# Altium schematic symbol library WE-MAPI.SchLib: 184 symbols (part 1 of 4)
Pins are listed as number, name and electrical type; pins without a type are passive.

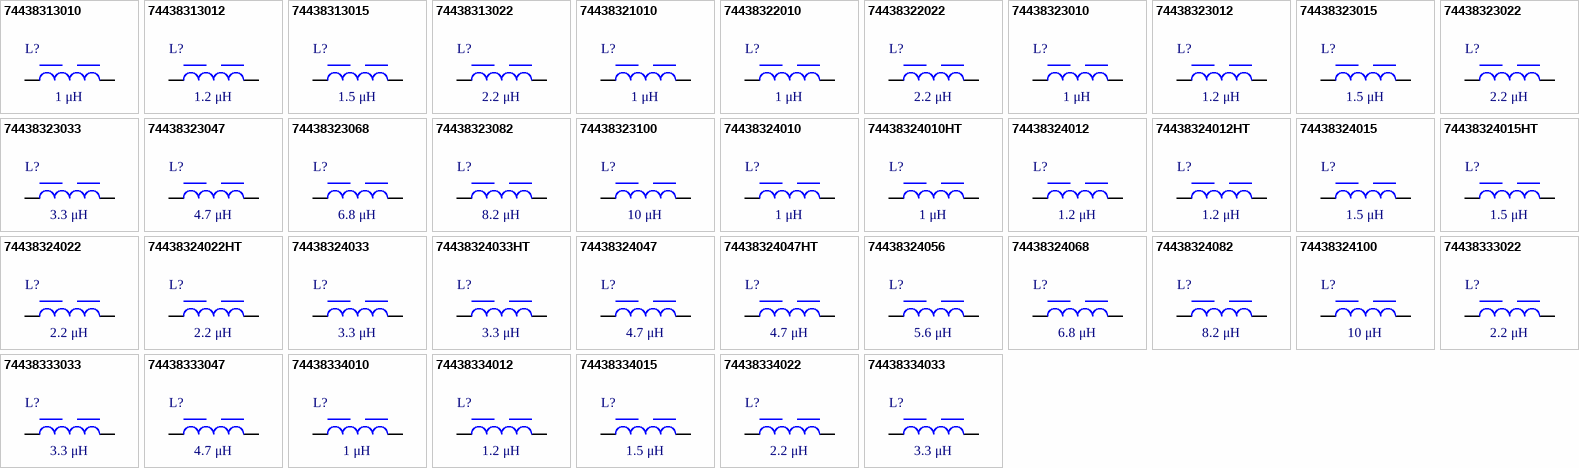
[diagram p0: symbols 74438313010 to 74438334033]

## 74438313010
designator L?, comment 1 μH
WE-MAPI SMT Power Inductor, size 1610, 1 μH, 2.2 A, 127 mΩ; Manufacturer Part Number: 74438313010; Manufacturer: Wurth Elektronik; Case/Size Code: 1610; DC Resistance: 127 mΩ; Operating Voltage (DC): 80 V; Performance Rated Current: 2.2 A; Saturation Current @ 30%: 4.25 A; Self Resonant Frequency: 111 MHz; Category: Power Inductors; Match Code: WE-MAPI; ComponentLink1Description: Website Link; ComponentLink1URL: https://www.we-online.com/redexpert/article/74438313010?ad; ComponentLink2Description: Datasheet Link; ComponentLink2URL: https://www.we-online.com/redexpert/spec/74438313010?ad; Mount: Surface Mount; Min Operating Temperature: -40 °C; Max Operating Temperature: 125 °C; Packaging: Tape and Reel; Length: 1.6 mm; Width: 1.6 mm; Height: 1 mm; Inductance: 1 μH
footprint WE-MAPI_1610
simulation model 1610_74438313010_1u
pins: 1, 2

## 74438313012
designator L?, comment 1.2 μH
WE-MAPI SMT Power Inductor, size 1610, 1.2 μH, 2.1 A, 140 mΩ; Manufacturer Part Number: 74438313012; Manufacturer: Wurth Elektronik; Case/Size Code: 1610; DC Resistance: 140 mΩ; Operating Voltage (DC): 80 V; Performance Rated Current: 2.1 A; Saturation Current @ 30%: 4.1 A; Self Resonant Frequency: 109 MHz; Category: Power Inductors; Match Code: WE-MAPI; ComponentLink1Description: Website Link; ComponentLink1URL: https://www.we-online.com/redexpert/article/74438313012?ad; ComponentLink2Description: Datasheet Link; ComponentLink2URL: https://www.we-online.com/redexpert/spec/74438313012?ad; Mount: Surface Mount; Min Operating Temperature: -40 °C; Max Operating Temperature: 125 °C; Packaging: Tape and Reel; Length: 1.6 mm; Width: 1.6 mm; Height: 1 mm; Inductance: 1.2 μH
footprint WE-MAPI_1610
simulation model 1610_74438313012_1.2u
pins: 1, 2

## 74438313015
designator L?, comment 1.5 μH
WE-MAPI SMT Power Inductor, size 1610, 1.5 μH, 1.8 A, 189 mΩ; Manufacturer Part Number: 74438313015; Manufacturer: Wurth Elektronik; Case/Size Code: 1610; DC Resistance: 189 mΩ; Operating Voltage (DC): 80 V; Performance Rated Current: 1.8 A; Saturation Current @ 30%: 3.45 A; Self Resonant Frequency: 90 MHz; Category: Power Inductors; Match Code: WE-MAPI; ComponentLink1Description: Website Link; ComponentLink1URL: https://www.we-online.com/redexpert/article/74438313015?ad; ComponentLink2Description: Datasheet Link; ComponentLink2URL: https://www.we-online.com/redexpert/spec/74438313015?ad; Mount: Surface Mount; Min Operating Temperature: -40 °C; Max Operating Temperature: 125 °C; Packaging: Tape and Reel; Length: 1.6 mm; Width: 1.6 mm; Height: 1 mm; Inductance: 1.5 μH
footprint WE-MAPI_1610
simulation model 1610_74438313015_1.5u
pins: 1, 2

## 74438313022
designator L?, comment 2.2 μH
WE-MAPI SMT Power Inductor, size 1610, 2.2 μH, 1.25 A, 337 mΩ; Manufacturer Part Number: 74438313022; Manufacturer: Wurth Elektronik; Case/Size Code: 1610; DC Resistance: 337 mΩ; Operating Voltage (DC): 80 V; Performance Rated Current: 1.25 A; Saturation Current @ 30%: 3.25 A; Self Resonant Frequency: 70 MHz; Category: Power Inductors; Match Code: WE-MAPI; ComponentLink1Description: Website Link; ComponentLink1URL: https://www.we-online.com/redexpert/article/74438313022?ad; ComponentLink2Description: Datasheet Link; ComponentLink2URL: https://www.we-online.com/redexpert/spec/74438313022?ad; Mount: Surface Mount; Min Operating Temperature: -40 °C; Max Operating Temperature: 125 °C; Packaging: Tape and Reel; Length: 1.6 mm; Width: 1.6 mm; Height: 1 mm; Inductance: 2.2 μH
footprint WE-MAPI_1610
simulation model 1610_74438313022_2.2u
pins: 1, 2

## 74438321010
designator L?, comment 1 μH
WE-MAPI SMT Power Inductor, size 2506, 1 μH, 2.1 A, 163 mΩ; Manufacturer Part Number: 74438321010; Manufacturer: Wurth Elektronik; Case/Size Code: 2506; DC Resistance: 163 mΩ; Operating Voltage (DC): 80 V; Performance Rated Current: 2.1 A; Saturation Current @ 30%: 3.25 A; Self Resonant Frequency: 90 MHz; Category: Power Inductors; Match Code: WE-MAPI; ComponentLink1Description: Website Link; ComponentLink1URL: https://www.we-online.com/redexpert/article/74438321010?ad; ComponentLink2Description: Datasheet Link; ComponentLink2URL: https://www.we-online.com/redexpert/spec/74438321010?ad; Mount: Surface Mount; Min Operating Temperature: -40 °C; Max Operating Temperature: 125 °C; Packaging: Tape and Reel; Length: 2.5 mm; Width: 2 mm; Height: 0.6 mm; Inductance: 1 μH
footprint WE-MAPI_2506
simulation model 2506_74438321010_1u
pins: 1, 2

## 74438322010
designator L?, comment 1 μH
WE-MAPI SMT Power Inductor, size 2508, 1 μH, 2.65 A, 107 mΩ; Manufacturer Part Number: 74438322010; Manufacturer: Wurth Elektronik; Case/Size Code: 2508; DC Resistance: 107 mΩ; Operating Voltage (DC): 80 V; Performance Rated Current: 2.65 A; Saturation Current @ 30%: 4.4 A; Self Resonant Frequency: 100 MHz; Category: Power Inductors; Match Code: WE-MAPI; ComponentLink1Description: Website Link; ComponentLink1URL: https://www.we-online.com/redexpert/article/74438322010?ad; ComponentLink2Description: Datasheet Link; ComponentLink2URL: https://www.we-online.com/redexpert/spec/74438322010?ad; Mount: Surface Mount; Min Operating Temperature: -40 °C; Max Operating Temperature: 125 °C; Packaging: Tape and Reel; Length: 2.5 mm; Width: 2 mm; Height: 0.8 mm; Inductance: 1 μH
footprint WE-MAPI_2508
simulation model 2508_74438322010_1u
pins: 1, 2

## 74438322022
designator L?, comment 2.2 μH
WE-MAPI SMT Power Inductor, size 2508, 2.2 μH, 1.65 A, 252 mΩ; Manufacturer Part Number: 74438322022; Manufacturer: Wurth Elektronik; Case/Size Code: 2508; DC Resistance: 252 mΩ; Operating Voltage (DC): 80 V; Performance Rated Current: 1.65 A; Saturation Current @ 30%: 2.8 A; Self Resonant Frequency: 60 MHz; Category: Power Inductors; Match Code: WE-MAPI; ComponentLink1Description: Website Link; ComponentLink1URL: https://www.we-online.com/redexpert/article/74438322022?ad; ComponentLink2Description: Datasheet Link; ComponentLink2URL: https://www.we-online.com/redexpert/spec/74438322022?ad; Mount: Surface Mount; Min Operating Temperature: -40 °C; Max Operating Temperature: 125 °C; Packaging: Tape and Reel; Length: 2.5 mm; Width: 2 mm; Height: 0.8 mm; Inductance: 2.2 μH
footprint WE-MAPI_2508
simulation model 2508_74438322022_2.2u
pins: 1, 2

## 74438323010
designator L?, comment 1 μH
WE-MAPI SMT Power Inductor, size 2510, 1 μH, 3.55 A, 63 mΩ; Manufacturer Part Number: 74438323010; Manufacturer: Wurth Elektronik; Case/Size Code: 2510; DC Resistance: 63 mΩ; Operating Voltage (DC): 80 V; Performance Rated Current: 3.55 A; Saturation Current @ 30%: 5.3 A; Self Resonant Frequency: 80 MHz; Category: Power Inductors; Match Code: WE-MAPI; ComponentLink1Description: Website Link; ComponentLink1URL: https://www.we-online.com/redexpert/article/74438323010?ad; ComponentLink2Description: Datasheet Link; ComponentLink2URL: https://www.we-online.com/redexpert/spec/74438323010?ad; Mount: Surface Mount; Min Operating Temperature: -40 °C; Max Operating Temperature: 125 °C; Packaging: Tape and Reel; Length: 2.5 mm; Width: 2 mm; Height: 1 mm; Inductance: 1 μH
footprint WE-MAPI_2510
simulation model 2510_74438323010_1u
pins: 1, 2

## 74438323012
designator L?, comment 1.2 μH
WE-MAPI SMT Power Inductor, size 2510, 1.2 μH, 3.05 A, 82 mΩ; Manufacturer Part Number: 74438323012; Manufacturer: Wurth Elektronik; Case/Size Code: 2510; DC Resistance: 82 mΩ; Operating Voltage (DC): 80 V; Performance Rated Current: 3.05 A; Saturation Current @ 30%: 4.85 A; Self Resonant Frequency: 75 MHz; Category: Power Inductors; Match Code: WE-MAPI; ComponentLink1Description: Website Link; ComponentLink1URL: https://www.we-online.com/redexpert/article/74438323012?ad; ComponentLink2Description: Datasheet Link; ComponentLink2URL: https://www.we-online.com/redexpert/spec/74438323012?ad; Mount: Surface Mount; Min Operating Temperature: -40 °C; Max Operating Temperature: 125 °C; Packaging: Tape and Reel; Length: 2.5 mm; Width: 2 mm; Height: 1 mm; Inductance: 1.2 μH
footprint WE-MAPI_2510
simulation model 2510_74438323012_1.2u
pins: 1, 2

## 74438323015
designator L?, comment 1.5 μH
WE-MAPI SMT Power Inductor, size 2510, 1.5 μH, 2.85 A, 92 mΩ; Manufacturer Part Number: 74438323015; Manufacturer: Wurth Elektronik; Case/Size Code: 2510; DC Resistance: 92 mΩ; Operating Voltage (DC): 80 V; Performance Rated Current: 2.85 A; Saturation Current @ 30%: 4.75 A; Self Resonant Frequency: 65 MHz; Category: Power Inductors; Match Code: WE-MAPI; ComponentLink1Description: Website Link; ComponentLink1URL: https://www.we-online.com/redexpert/article/74438323015?ad; ComponentLink2Description: Datasheet Link; ComponentLink2URL: https://www.we-online.com/redexpert/spec/74438323015?ad; Mount: Surface Mount; Min Operating Temperature: -40 °C; Max Operating Temperature: 125 °C; Packaging: Tape and Reel; Length: 2.5 mm; Width: 2 mm; Height: 1 mm; Inductance: 1.5 μH
footprint WE-MAPI_2510
simulation model 2510_74438323015_1.5u
pins: 1, 2

## 74438323022
designator L?, comment 2.2 μH
WE-MAPI SMT Power Inductor, size 2510, 2.2 μH, 2.2 A, 147 mΩ; Manufacturer Part Number: 74438323022; Manufacturer: Wurth Elektronik; Case/Size Code: 2510; DC Resistance: 147 mΩ; Operating Voltage (DC): 80 V; Performance Rated Current: 2.2 A; Saturation Current @ 30%: 3.55 A; Self Resonant Frequency: 60 MHz; Category: Power Inductors; Match Code: WE-MAPI; ComponentLink1Description: Website Link; ComponentLink1URL: https://www.we-online.com/redexpert/article/74438323022?ad; ComponentLink2Description: Datasheet Link; ComponentLink2URL: https://www.we-online.com/redexpert/spec/74438323022?ad; Mount: Surface Mount; Min Operating Temperature: -40 °C; Max Operating Temperature: 125 °C; Packaging: Tape and Reel; Length: 2.5 mm; Width: 2 mm; Height: 1 mm; Inductance: 2.2 μH
footprint WE-MAPI_2510
simulation model 2510_74438323022_2.2u
pins: 1, 2

## 74438323033
designator L?, comment 3.3 μH
WE-MAPI SMT Power Inductor, size 2510, 3.3 μH, 1.75 A, 220 mΩ; Manufacturer Part Number: 74438323033; Manufacturer: Wurth Elektronik; Case/Size Code: 2510; DC Resistance: 220 mΩ; Operating Voltage (DC): 80 V; Performance Rated Current: 1.75 A; Saturation Current @ 30%: 2.7 A; Self Resonant Frequency: 50 MHz; Category: Power Inductors; Match Code: WE-MAPI; ComponentLink1Description: Website Link; ComponentLink1URL: https://www.we-online.com/redexpert/article/74438323033?ad; ComponentLink2Description: Datasheet Link; ComponentLink2URL: https://www.we-online.com/redexpert/spec/74438323033?ad; Mount: Surface Mount; Min Operating Temperature: -40 °C; Max Operating Temperature: 125 °C; Packaging: Tape and Reel; Length: 2.5 mm; Width: 2 mm; Height: 1 mm; Inductance: 3.3 μH
footprint WE-MAPI_2510
simulation model 2510_74438323033_3.3u
pins: 1, 2

## 74438323047
designator L?, comment 4.7 μH
WE-MAPI SMT Power Inductor, size 2510, 4.7 μH, 1.4 A, 338 mΩ; Manufacturer Part Number: 74438323047; Manufacturer: Wurth Elektronik; Case/Size Code: 2510; DC Resistance: 338 mΩ; Operating Voltage (DC): 80 V; Performance Rated Current: 1.4 A; Saturation Current @ 30%: 2.3 A; Self Resonant Frequency: 35 MHz; Category: Power Inductors; Match Code: WE-MAPI; ComponentLink1Description: Website Link; ComponentLink1URL: https://www.we-online.com/redexpert/article/74438323047?ad; ComponentLink2Description: Datasheet Link; ComponentLink2URL: https://www.we-online.com/redexpert/spec/74438323047?ad; Mount: Surface Mount; Min Operating Temperature: -40 °C; Max Operating Temperature: 125 °C; Packaging: Tape and Reel; Length: 2.5 mm; Width: 2 mm; Height: 1 mm; Inductance: 4.7 μH
footprint WE-MAPI_2510
simulation model 2510_74438323047_4.7u
pins: 1, 2

## 74438323068
designator L?, comment 6.8 μH
WE-MAPI SMT Power Inductor, size 2510, 6.8 μH, 1.05 A, 563 mΩ; Manufacturer Part Number: 74438323068; Manufacturer: Wurth Elektronik; Case/Size Code: 2510; DC Resistance: 563 mΩ; Operating Voltage (DC): 80 V; Performance Rated Current: 1.05 A; Saturation Current @ 30%: 2 A; Self Resonant Frequency: 30 MHz; Category: Power Inductors; Match Code: WE-MAPI; ComponentLink1Description: Website Link; ComponentLink1URL: https://www.we-online.com/redexpert/article/74438323068?ad; ComponentLink2Description: Datasheet Link; ComponentLink2URL: https://www.we-online.com/redexpert/spec/74438323068?ad; Mount: Surface Mount; Min Operating Temperature: -40 °C; Max Operating Temperature: 125 °C; Packaging: Tape and Reel; Length: 2.5 mm; Width: 2 mm; Height: 1 mm; Inductance: 6.8 μH
footprint WE-MAPI_2510
simulation model 2510_74438323068_6.8u
pins: 1, 2

## 74438323082
designator L?, comment 8.2 μH
WE-MAPI SMT Power Inductor, size 2510, 8.2 μH, 0.95 A, 646 mΩ; Manufacturer Part Number: 74438323082; Manufacturer: Wurth Elektronik; Case/Size Code: 2510; DC Resistance: 646 mΩ; Operating Voltage (DC): 80 V; Performance Rated Current: 0.95 A; Saturation Current @ 30%: 1.85 A; Self Resonant Frequency: 27 MHz; Category: Power Inductors; Match Code: WE-MAPI; ComponentLink1Description: Website Link; ComponentLink1URL: https://www.we-online.com/redexpert/article/74438323082?ad; ComponentLink2Description: Datasheet Link; ComponentLink2URL: https://www.we-online.com/redexpert/spec/74438323082?ad; Mount: Surface Mount; Min Operating Temperature: -40 °C; Max Operating Temperature: 125 °C; Packaging: Tape and Reel; Length: 2.5 mm; Width: 2 mm; Height: 1 mm; Inductance: 8.2 μH
footprint WE-MAPI_2510
simulation model 2510_74438323082_8.2u
pins: 1, 2

## 74438323100
designator L?, comment 10 μH
WE-MAPI SMT Power Inductor, size 2510, 10 μH, 0.9 A, 733 mΩ; Manufacturer Part Number: 74438323100; Manufacturer: Wurth Elektronik; Case/Size Code: 2510; DC Resistance: 733 mΩ; Operating Voltage (DC): 80 V; Performance Rated Current: 0.9 A; Saturation Current @ 30%: 1.7 A; Self Resonant Frequency: 25 MHz; Category: Power Inductors; Match Code: WE-MAPI; ComponentLink1Description: Website Link; ComponentLink1URL: https://www.we-online.com/redexpert/article/74438323100?ad; ComponentLink2Description: Datasheet Link; ComponentLink2URL: https://www.we-online.com/redexpert/spec/74438323100?ad; Mount: Surface Mount; Min Operating Temperature: -40 °C; Max Operating Temperature: 125 °C; Packaging: Tape and Reel; Length: 2.5 mm; Width: 2 mm; Height: 1 mm; Inductance: 10 μH
footprint WE-MAPI_2510
simulation model 2510_74438323100_10u
pins: 1, 2

## 74438324010
designator L?, comment 1 μH
WE-MAPI SMT Power Inductor, size 2512, 1 μH, 4.05 A, 49 mΩ; Manufacturer Part Number: 74438324010; Manufacturer: Wurth Elektronik; Case/Size Code: 2512; DC Resistance: 49 mΩ; Operating Voltage (DC): 80 V; Performance Rated Current: 4.05 A; Saturation Current @ 30%: 6.3 A; Self Resonant Frequency: 85 MHz; Category: Power Inductors; Match Code: WE-MAPI; ComponentLink1Description: Website Link; ComponentLink1URL: https://www.we-online.com/redexpert/article/74438324010?ad; ComponentLink2Description: Datasheet Link; ComponentLink2URL: https://www.we-online.com/redexpert/spec/74438324010?ad; Mount: Surface Mount; Min Operating Temperature: -40 °C; Max Operating Temperature: 125 °C; Packaging: Tape and Reel; Length: 2.5 mm; Width: 2 mm; Height: 1.2 mm; Inductance: 1 μH
footprint WE-MAPI_2512
simulation model 2512_74438324010_1u
pins: 1, 2

## 74438324010HT
designator L?, comment 1 μH
WE-MAPI SMT Power Inductor, size 2512, 1 μH, 3.9 A, 53.4 mΩ; Manufacturer Part Number: 74438324010HT; Manufacturer: Wurth Elektronik; Case/Size Code: 2512; DC Resistance: 53.4 mΩ; Operating Voltage (DC): 80 V; Performance Rated Current: 3.9 A; Saturation Current @ 30%: 4.8 A; Self Resonant Frequency: 71 MHz; Category: Power Inductors; Match Code: WE-MAPI; ComponentLink1Description: Website Link; ComponentLink1URL: https://www.we-online.com/redexpert/article/74438324010HT?ad; ComponentLink2Description: Datasheet Link; ComponentLink2URL: https://www.we-online.com/redexpert/spec/74438324010HT?ad; Mount: Surface Mount; Min Operating Temperature: -55 °C; Max Operating Temperature: 150 °C; Packaging: Tape and Reel; Length: 2.5 mm; Width: 2 mm; Height: 1.2 mm; Inductance: 1 μH
footprint WE-MAPI_2512
simulation model 2512HT_74438324010HT_1u
pins: 1, 2

## 74438324012
designator L?, comment 1.2 μH
WE-MAPI SMT Power Inductor, size 2512, 1.2 μH, 3.4 A, 67 mΩ; Manufacturer Part Number: 74438324012; Manufacturer: Wurth Elektronik; Case/Size Code: 2512; DC Resistance: 67 mΩ; Operating Voltage (DC): 80 V; Performance Rated Current: 3.4 A; Saturation Current @ 30%: 5.8 A; Self Resonant Frequency: 80 MHz; Category: Power Inductors; Match Code: WE-MAPI; ComponentLink1Description: Website Link; ComponentLink1URL: https://www.we-online.com/redexpert/article/74438324012?ad; ComponentLink2Description: Datasheet Link; ComponentLink2URL: https://www.we-online.com/redexpert/spec/74438324012?ad; Mount: Surface Mount; Min Operating Temperature: -40 °C; Max Operating Temperature: 125 °C; Packaging: Tape and Reel; Length: 2.5 mm; Width: 2 mm; Height: 1.2 mm; Inductance: 1.2 μH
footprint WE-MAPI_2512
simulation model 2512_74438324012_1.2u
pins: 1, 2

## 74438324012HT
designator L?, comment 1.2 μH
WE-MAPI SMT Power Inductor, size 2512, 1.2 μH, 3.5 A, 64.9 mΩ; Manufacturer Part Number: 74438324012HT; Manufacturer: Wurth Elektronik; Case/Size Code: 2512; DC Resistance: 64.9 mΩ; Operating Voltage (DC): 80 V; Performance Rated Current: 3.5 A; Saturation Current @ 30%: 4.7 A; Self Resonant Frequency: 67 MHz; Category: Power Inductors; Match Code: WE-MAPI; ComponentLink1Description: Website Link; ComponentLink1URL: https://www.we-online.com/redexpert/article/74438324012HT?ad; ComponentLink2Description: Datasheet Link; ComponentLink2URL: https://www.we-online.com/redexpert/spec/74438324012HT?ad; Mount: Surface Mount; Min Operating Temperature: -55 °C; Max Operating Temperature: 150 °C; Packaging: Tape and Reel; Length: 2.5 mm; Width: 2 mm; Height: 1.2 mm; Inductance: 1.2 μH
footprint WE-MAPI_2512
simulation model 2512HT_74438324012HT_1.2u
pins: 1, 2

## 74438324015
designator L?, comment 1.5 μH
WE-MAPI SMT Power Inductor, size 2512, 1.5 μH, 3.05 A, 82 mΩ; Manufacturer Part Number: 74438324015; Manufacturer: Wurth Elektronik; Case/Size Code: 2512; DC Resistance: 82 mΩ; Operating Voltage (DC): 80 V; Performance Rated Current: 3.05 A; Saturation Current @ 30%: 4.7 A; Self Resonant Frequency: 60 MHz; Category: Power Inductors; Match Code: WE-MAPI; ComponentLink1Description: Website Link; ComponentLink1URL: https://www.we-online.com/redexpert/article/74438324015?ad; ComponentLink2Description: Datasheet Link; ComponentLink2URL: https://www.we-online.com/redexpert/spec/74438324015?ad; Mount: Surface Mount; Min Operating Temperature: -40 °C; Max Operating Temperature: 125 °C; Packaging: Tape and Reel; Length: 2.5 mm; Width: 2 mm; Height: 1.2 mm; Inductance: 1.5 μH
footprint WE-MAPI_2512
simulation model 2512_74438324015_1.5u
pins: 1, 2

## 74438324015HT
designator L?, comment 1.5 μH
WE-MAPI SMT Power Inductor, size 2512, 1.5 μH, 2.9 A, 88.7 mΩ; Manufacturer Part Number: 74438324015HT; Manufacturer: Wurth Elektronik; Case/Size Code: 2512; DC Resistance: 88.7 mΩ; Operating Voltage (DC): 80 V; Performance Rated Current: 2.9 A; Saturation Current @ 30%: 4 A; Self Resonant Frequency: 56 MHz; Category: Power Inductors; Match Code: WE-MAPI; ComponentLink1Description: Website Link; ComponentLink1URL: https://www.we-online.com/redexpert/article/74438324015HT?ad; ComponentLink2Description: Datasheet Link; ComponentLink2URL: https://www.we-online.com/redexpert/spec/74438324015HT?ad; Mount: Surface Mount; Min Operating Temperature: -55 °C; Max Operating Temperature: 150 °C; Packaging: Tape and Reel; Length: 2.5 mm; Width: 2 mm; Height: 1.2 mm; Inductance: 1.5 μH
footprint WE-MAPI_2512
simulation model 2512HT_74438324015HT_1.5u
pins: 1, 2

## 74438324022
designator L?, comment 2.2 μH
WE-MAPI SMT Power Inductor, size 2512, 2.2 μH, 2.45 A, 123 mΩ; Manufacturer Part Number: 74438324022; Manufacturer: Wurth Elektronik; Case/Size Code: 2512; DC Resistance: 123 mΩ; Operating Voltage (DC): 80 V; Performance Rated Current: 2.45 A; Saturation Current @ 30%: 3.65 A; Self Resonant Frequency: 57 MHz; Category: Power Inductors; Match Code: WE-MAPI; ComponentLink1Description: Website Link; ComponentLink1URL: https://www.we-online.com/redexpert/article/74438324022?ad; ComponentLink2Description: Datasheet Link; ComponentLink2URL: https://www.we-online.com/redexpert/spec/74438324022?ad; Mount: Surface Mount; Min Operating Temperature: -40 °C; Max Operating Temperature: 125 °C; Packaging: Tape and Reel; Length: 2.5 mm; Width: 2 mm; Height: 1.2 mm; Inductance: 2.2 μH
footprint WE-MAPI_2512
simulation model 2512_74438324022_2.2u
pins: 1, 2

## 74438324022HT
designator L?, comment 2.2 μH
WE-MAPI SMT Power Inductor, size 2512, 2.2 μH, 2.2 A, 141.3 mΩ; Manufacturer Part Number: 74438324022HT; Manufacturer: Wurth Elektronik; Case/Size Code: 2512; Operating Voltage (DC): 80 V; Performance Rated Current: 2.2 A; Saturation Current @ 30%: 3.5 A; Self Resonant Frequency: 53 MHz; Category: Power Inductors; Match Code: WE-MAPI; ComponentLink1Description: Website Link; ComponentLink1URL: https://www.we-online.com/redexpert/article/74438324022HT?ad; ComponentLink2Description: Datasheet Link; ComponentLink2URL: https://www.we-online.com/redexpert/spec/74438324022HT?ad; Mount: Surface Mount; Min Operating Temperature: -55 °C; Max Operating Temperature: 150 °C; Packaging: Tape and Reel; Length: 2.5 mm; Width: 2 mm; Height: 1.2 mm; DC Resistance: 141.3 mΩ; Inductance: 2.2 μH
footprint WE-MAPI_2512
simulation model 2512HT_74438324022HT_2.2u
pins: 1, 2

## 74438324033
designator L?, comment 3.3 μH
WE-MAPI SMT Power Inductor, size 2512, 3.3 μH, 1.7 A, 226 mΩ; Manufacturer Part Number: 74438324033; Manufacturer: Wurth Elektronik; Case/Size Code: 2512; DC Resistance: 226 mΩ; Operating Voltage (DC): 80 V; Performance Rated Current: 1.7 A; Saturation Current @ 30%: 3.3 A; Self Resonant Frequency: 42 MHz; Category: Power Inductors; Match Code: WE-MAPI; ComponentLink1Description: Website Link; ComponentLink1URL: https://www.we-online.com/redexpert/article/74438324033?ad; ComponentLink2Description: Datasheet Link; ComponentLink2URL: https://www.we-online.com/redexpert/spec/74438324033?ad; Mount: Surface Mount; Min Operating Temperature: -40 °C; Max Operating Temperature: 125 °C; Packaging: Tape and Reel; Length: 2.5 mm; Width: 2 mm; Height: 1.2 mm; Inductance: 3.3 μH
footprint WE-MAPI_2512
simulation model 2512_74438324033_3.3u
pins: 1, 2

## 74438324033HT
designator L?, comment 3.3 μH
WE-MAPI SMT Power Inductor, size 2512, 3.3 μH, 1.7 A, 238.8 mΩ; Manufacturer Part Number: 74438324033HT; Manufacturer: Wurth Elektronik; Case/Size Code: 2512; Operating Voltage (DC): 80 V; Performance Rated Current: 1.7 A; Saturation Current @ 30%: 3 A; Self Resonant Frequency: 42 MHz; Category: Power Inductors; Match Code: WE-MAPI; ComponentLink1Description: Website Link; ComponentLink1URL: https://www.we-online.com/redexpert/article/74438324033HT?ad; ComponentLink2Description: Datasheet Link; ComponentLink2URL: https://www.we-online.com/redexpert/spec/74438324033HT?ad; Mount: Surface Mount; Min Operating Temperature: -55 °C; Max Operating Temperature: 150 °C; Packaging: Tape and Reel; Length: 2.5 mm; Width: 2 mm; Height: 1.2 mm; DC Resistance: 238.8 mΩ; Inductance: 3.3 μH
footprint WE-MAPI_2512
simulation model 2512HT_74438324033HT_3.3u
pins: 1, 2

## 74438324047
designator L?, comment 4.7 μH
WE-MAPI SMT Power Inductor, size 2512, 4.7 μH, 1.45 A, 300 mΩ; Manufacturer Part Number: 74438324047; Manufacturer: Wurth Elektronik; Case/Size Code: 2512; DC Resistance: 300 mΩ; Operating Voltage (DC): 80 V; Performance Rated Current: 1.45 A; Saturation Current @ 30%: 2.65 A; Self Resonant Frequency: 35 MHz; Category: Power Inductors; Match Code: WE-MAPI; ComponentLink1Description: Website Link; ComponentLink1URL: https://www.we-online.com/redexpert/article/74438324047?ad; ComponentLink2Description: Datasheet Link; ComponentLink2URL: https://www.we-online.com/redexpert/spec/74438324047?ad; Mount: Surface Mount; Min Operating Temperature: -40 °C; Max Operating Temperature: 125 °C; Packaging: Tape and Reel; Length: 2.5 mm; Width: 2 mm; Height: 1.2 mm; Inductance: 4.7 μH
footprint WE-MAPI_2512
simulation model 2512_74438324047_4.7u
pins: 1, 2

## 74438324047HT
designator L?, comment 4.7 μH
WE-MAPI SMT Power Inductor, size 2512, 4.7 μH, 1.4 A, 319.6 mΩ; Manufacturer Part Number: 74438324047HT; Manufacturer: Wurth Elektronik; Case/Size Code: 2512; Operating Voltage (DC): 80 V; Performance Rated Current: 1.4 A; Saturation Current @ 30%: 2.4 A; Self Resonant Frequency: 33 MHz; Category: Power Inductors; Match Code: WE-MAPI; ComponentLink1Description: Website Link; ComponentLink1URL: https://www.we-online.com/redexpert/article/74438324047HT?ad; ComponentLink2Description: Datasheet Link; ComponentLink2URL: https://www.we-online.com/redexpert/spec/74438324047HT?ad; Mount: Surface Mount; Min Operating Temperature: -55 °C; Max Operating Temperature: 150 °C; Packaging: Tape and Reel; Length: 2.5 mm; Width: 2 mm; Height: 1.2 mm; DC Resistance: 319.6 mΩ; Inductance: 4.7 μH
footprint WE-MAPI_2512
simulation model 2512HT_74438324047HT_4.7u
pins: 1, 2

## 74438324056
designator L?, comment 5.6 μH
WE-MAPI SMT Power Inductor, size 2512, 5.6 μH, 1.25 A, 405 mΩ; Manufacturer Part Number: 74438324056; Manufacturer: Wurth Elektronik; Case/Size Code: 2512; DC Resistance: 405 mΩ; Operating Voltage (DC): 80 V; Performance Rated Current: 1.25 A; Saturation Current @ 30%: 2.2 A; Self Resonant Frequency: 30 MHz; Category: Power Inductors; Match Code: WE-MAPI; ComponentLink1Description: Website Link; ComponentLink1URL: https://www.we-online.com/redexpert/article/74438324056?ad; ComponentLink2Description: Datasheet Link; ComponentLink2URL: https://www.we-online.com/redexpert/spec/74438324056?ad; Mount: Surface Mount; Min Operating Temperature: -40 °C; Max Operating Temperature: 125 °C; Packaging: Tape and Reel; Length: 2.5 mm; Width: 2 mm; Height: 1.2 mm; Inductance: 5.6 μH
footprint WE-MAPI_2512
simulation model 2512_74438324056_5.6u
pins: 1, 2

## 74438324068
designator L?, comment 6.8 μH
WE-MAPI SMT Power Inductor, size 2512, 6.8 μH, 1.05 A, 560 mΩ; Manufacturer Part Number: 74438324068; Manufacturer: Wurth Elektronik; Case/Size Code: 2512; DC Resistance: 560 mΩ; Operating Voltage (DC): 80 V; Performance Rated Current: 1.05 A; Saturation Current @ 30%: 2.05 A; Self Resonant Frequency: 27 MHz; Category: Power Inductors; Match Code: WE-MAPI; ComponentLink1Description: Website Link; ComponentLink1URL: https://www.we-online.com/redexpert/article/74438324068?ad; ComponentLink2Description: Datasheet Link; ComponentLink2URL: https://www.we-online.com/redexpert/spec/74438324068?ad; Mount: Surface Mount; Min Operating Temperature: -40 °C; Max Operating Temperature: 125 °C; Packaging: Tape and Reel; Length: 2.5 mm; Width: 2 mm; Height: 1.2 mm; Inductance: 6.8 μH
footprint WE-MAPI_2512
simulation model 2512_74438324068_6.8u
pins: 1, 2

## 74438324082
designator L?, comment 8.2 μH
WE-MAPI SMT Power Inductor, size 2512, 8.2 μH, 0.95 A, 630 mΩ; Manufacturer Part Number: 74438324082; Manufacturer: Wurth Elektronik; Case/Size Code: 2512; DC Resistance: 630 mΩ; Operating Voltage (DC): 80 V; Performance Rated Current: 0.95 A; Saturation Current @ 30%: 1.9 A; Self Resonant Frequency: 25 MHz; Category: Power Inductors; Match Code: WE-MAPI; ComponentLink1Description: Website Link; ComponentLink1URL: https://www.we-online.com/redexpert/article/74438324082?ad; ComponentLink2Description: Datasheet Link; ComponentLink2URL: https://www.we-online.com/redexpert/spec/74438324082?ad; Mount: Surface Mount; Min Operating Temperature: -40 °C; Max Operating Temperature: 125 °C; Packaging: Tape and Reel; Length: 2.5 mm; Width: 2 mm; Height: 1.2 mm; Inductance: 8.2 μH
footprint WE-MAPI_2512
simulation model 2512_74438324082_8.2u
pins: 1, 2

## 74438324100
designator L?, comment 10 μH
WE-MAPI SMT Power Inductor, size 2512, 10 μH, 0.9 A, 680 mΩ; Manufacturer Part Number: 74438324100; Manufacturer: Wurth Elektronik; Case/Size Code: 2512; DC Resistance: 680 mΩ; Operating Voltage (DC): 80 V; Performance Rated Current: 0.9 A; Saturation Current @ 30%: 1.75 A; Self Resonant Frequency: 23 MHz; Category: Power Inductors; Match Code: WE-MAPI; ComponentLink1Description: Website Link; ComponentLink1URL: https://www.we-online.com/redexpert/article/74438324100?ad; ComponentLink2Description: Datasheet Link; ComponentLink2URL: https://www.we-online.com/redexpert/spec/74438324100?ad; Mount: Surface Mount; Min Operating Temperature: -40 °C; Max Operating Temperature: 125 °C; Packaging: Tape and Reel; Length: 2.5 mm; Width: 2 mm; Height: 1.2 mm; Inductance: 10 μH
footprint WE-MAPI_2512
simulation model 2512_74438324100_10u
pins: 1, 2

## 74438333022
designator L?, comment 2.2 μH
WE-MAPI SMT Power Inductor, size 3010, 2.2 μH, 2.35 A, 150 mΩ; Manufacturer Part Number: 74438333022; Manufacturer: Wurth Elektronik; Case/Size Code: 3010; DC Resistance: 150 mΩ; Operating Voltage (DC): 80 V; Performance Rated Current: 2.35 A; Saturation Current @ 30%: 4.85 A; Self Resonant Frequency: 50 MHz; Category: Power Inductors; Match Code: WE-MAPI; ComponentLink1Description: Website Link; ComponentLink1URL: https://www.we-online.com/redexpert/article/74438333022?ad; ComponentLink2Description: Datasheet Link; ComponentLink2URL: https://www.we-online.com/redexpert/spec/74438333022?ad; Mount: Surface Mount; Min Operating Temperature: -40 °C; Max Operating Temperature: 125 °C; Packaging: Tape and Reel; Length: 3 mm; Width: 3 mm; Height: 1 mm; Inductance: 2.2 μH
footprint WE-MAPI_3010
simulation model 3010_74438333022_2.2u
pins: 1, 2

## 74438333033
designator L?, comment 3.3 μH
WE-MAPI SMT Power Inductor, size 3010, 3.3 μH, 1.85 A, 232 mΩ; Manufacturer Part Number: 74438333033; Manufacturer: Wurth Elektronik; Case/Size Code: 3010; DC Resistance: 232 mΩ; Operating Voltage (DC): 80 V; Performance Rated Current: 1.85 A; Saturation Current @ 30%: 3.7 A; Self Resonant Frequency: 38 MHz; Category: Power Inductors; Match Code: WE-MAPI; ComponentLink1Description: Website Link; ComponentLink1URL: https://www.we-online.com/redexpert/article/74438333033?ad; ComponentLink2Description: Datasheet Link; ComponentLink2URL: https://www.we-online.com/redexpert/spec/74438333033?ad; Mount: Surface Mount; Min Operating Temperature: -40 °C; Max Operating Temperature: 125 °C; Packaging: Tape and Reel; Length: 3 mm; Width: 3 mm; Height: 1 mm; Inductance: 3.3 μH
footprint WE-MAPI_3010
simulation model 3010_74438333033_3.3u
pins: 1, 2

## 74438333047
designator L?, comment 4.7 μH
WE-MAPI SMT Power Inductor, size 3010, 4.7 μH, 1.45 A, 356 mΩ; Manufacturer Part Number: 74438333047; Manufacturer: Wurth Elektronik; Case/Size Code: 3010; DC Resistance: 356 mΩ; Operating Voltage (DC): 80 V; Performance Rated Current: 1.45 A; Saturation Current @ 30%: 3 A; Self Resonant Frequency: 35 MHz; Category: Power Inductors; Match Code: WE-MAPI; ComponentLink1Description: Website Link; ComponentLink1URL: https://www.we-online.com/redexpert/article/74438333047?ad; ComponentLink2Description: Datasheet Link; ComponentLink2URL: https://www.we-online.com/redexpert/spec/74438333047?ad; Mount: Surface Mount; Min Operating Temperature: -40 °C; Max Operating Temperature: 125 °C; Packaging: Tape and Reel; Length: 3 mm; Width: 3 mm; Height: 1 mm; Inductance: 4.7 μH
footprint WE-MAPI_3010
simulation model 3010_74438333047_4.7u
pins: 1, 2

## 74438334010
designator L?, comment 1 μH
WE-MAPI SMT Power Inductor, size 3012, 1 μH, 4.75 A, 42.1 mΩ; Manufacturer Part Number: 74438334010; Manufacturer: Wurth Elektronik; Case/Size Code: 3012; DC Resistance: 42.1 mΩ; Operating Voltage (DC): 80 V; Performance Rated Current: 4.75 A; Saturation Current @ 30%: 8.4 A; Self Resonant Frequency: 80 MHz; Category: Power Inductors; Match Code: WE-MAPI; ComponentLink1Description: Website Link; ComponentLink1URL: https://www.we-online.com/redexpert/article/74438334010?ad; ComponentLink2Description: Datasheet Link; ComponentLink2URL: https://www.we-online.com/redexpert/spec/74438334010?ad; Mount: Surface Mount; Min Operating Temperature: -40 °C; Max Operating Temperature: 125 °C; Packaging: Tape and Reel; Length: 3 mm; Width: 3 mm; Height: 1.2 mm; Inductance: 1 μH
footprint WE-MAPI_3012
simulation model 3012_74438334010_1u
pins: 1, 2

## 74438334012
designator L?, comment 1.2 μH
WE-MAPI SMT Power Inductor, size 3012, 1.2 μH, 4.05 A, 55 mΩ; Manufacturer Part Number: 74438334012; Manufacturer: Wurth Elektronik; Case/Size Code: 3012; DC Resistance: 55 mΩ; Operating Voltage (DC): 80 V; Performance Rated Current: 4.05 A; Saturation Current @ 30%: 7.5 A; Self Resonant Frequency: 66 MHz; Category: Power Inductors; Match Code: WE-MAPI; ComponentLink1Description: Website Link; ComponentLink1URL: https://www.we-online.com/redexpert/article/74438334012?ad; ComponentLink2Description: Datasheet Link; ComponentLink2URL: https://www.we-online.com/redexpert/spec/74438334012?ad; Mount: Surface Mount; Min Operating Temperature: -40 °C; Max Operating Temperature: 125 °C; Packaging: Tape and Reel; Length: 3 mm; Width: 3 mm; Height: 1.2 mm; Inductance: 1.2 μH
footprint WE-MAPI_3012
simulation model 3012_74438334012_1.2u
pins: 1, 2

## 74438334015
designator L?, comment 1.5 μH
WE-MAPI SMT Power Inductor, size 3012, 1.5 μH, 3.3 A, 80 mΩ; Manufacturer Part Number: 74438334015; Manufacturer: Wurth Elektronik; Case/Size Code: 3012; DC Resistance: 80 mΩ; Operating Voltage (DC): 80 V; Performance Rated Current: 3.3 A; Saturation Current @ 30%: 7.1 A; Self Resonant Frequency: 60 MHz; Category: Power Inductors; Match Code: WE-MAPI; ComponentLink1Description: Website Link; ComponentLink1URL: https://www.we-online.com/redexpert/article/74438334015?ad; ComponentLink2Description: Datasheet Link; ComponentLink2URL: https://www.we-online.com/redexpert/spec/74438334015?ad; Mount: Surface Mount; Min Operating Temperature: -40 °C; Max Operating Temperature: 125 °C; Packaging: Tape and Reel; Length: 3 mm; Width: 3 mm; Height: 1.2 mm; Inductance: 1.5 μH
footprint WE-MAPI_3012
simulation model 3012_74438334015_1.5u
pins: 1, 2

## 74438334022
designator L?, comment 2.2 μH
WE-MAPI SMT Power Inductor, size 3012, 2.2 μH, 2.9 A, 100 mΩ; Manufacturer Part Number: 74438334022; Manufacturer: Wurth Elektronik; Case/Size Code: 3012; DC Resistance: 100 mΩ; Operating Voltage (DC): 80 V; Performance Rated Current: 2.9 A; Saturation Current @ 30%: 6.1 A; Self Resonant Frequency: 50 MHz; Category: Power Inductors; Match Code: WE-MAPI; ComponentLink1Description: Website Link; ComponentLink1URL: https://www.we-online.com/redexpert/article/74438334022?ad; ComponentLink2Description: Datasheet Link; ComponentLink2URL: https://www.we-online.com/redexpert/spec/74438334022?ad; Mount: Surface Mount; Min Operating Temperature: -40 °C; Max Operating Temperature: 125 °C; Packaging: Tape and Reel; Length: 3 mm; Width: 3 mm; Height: 1.2 mm; Inductance: 2.2 μH
footprint WE-MAPI_3012
simulation model 3012_74438334022_2.2u
pins: 1, 2

## 74438334033
designator L?, comment 3.3 μH
WE-MAPI SMT Power Inductor, size 3012, 3.3 μH, 2.25 A, 156.3 mΩ; Manufacturer Part Number: 74438334033; Manufacturer: Wurth Elektronik; Case/Size Code: 3012; Operating Voltage (DC): 80 V; Performance Rated Current: 2.25 A; Saturation Current @ 30%: 5.1 A; Self Resonant Frequency: 36 MHz; Category: Power Inductors; Match Code: WE-MAPI; ComponentLink1Description: Website Link; ComponentLink1URL: https://www.we-online.com/redexpert/article/74438334033?ad; ComponentLink2Description: Datasheet Link; ComponentLink2URL: https://www.we-online.com/redexpert/spec/74438334033?ad; Mount: Surface Mount; Min Operating Temperature: -40 °C; Max Operating Temperature: 125 °C; Packaging: Tape and Reel; Length: 3 mm; Width: 3 mm; Height: 1.2 mm; DC Resistance: 156.3 mΩ; Inductance: 3.3 μH
footprint WE-MAPI_3012
simulation model 3012_74438334033_3.3u
pins: 1, 2

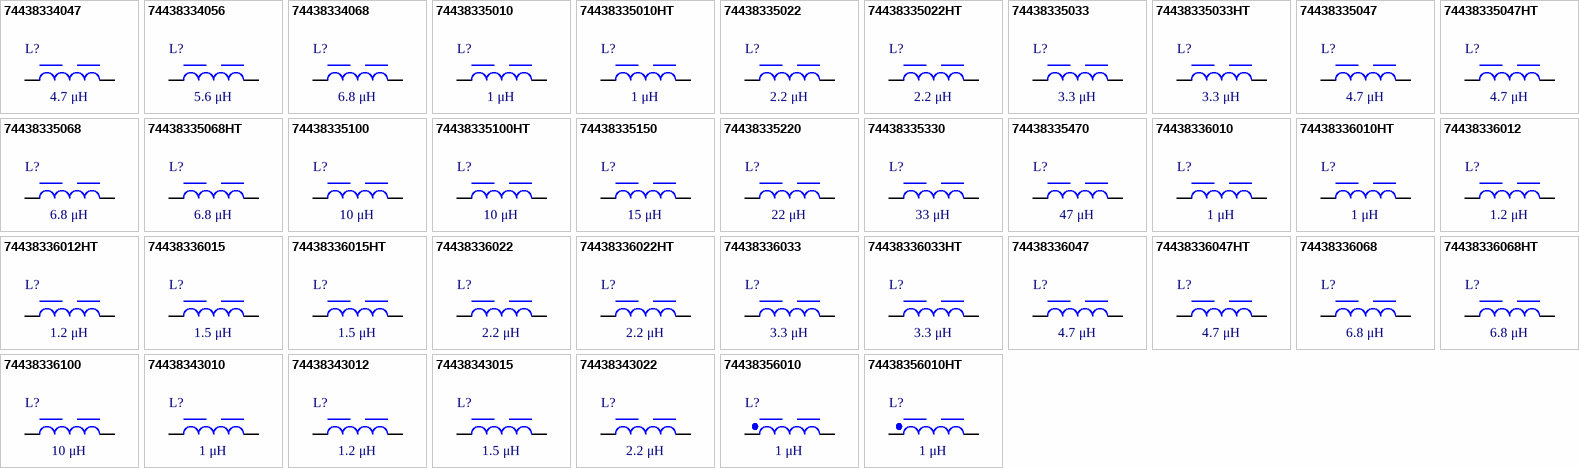
[diagram p1: symbols 74438334047 to 74438356010HT]

## 74438334047
designator L?, comment 4.7 μH
WE-MAPI SMT Power Inductor, size 3012, 4.7 μH, 1.7 A, 267.7 mΩ; Manufacturer Part Number: 74438334047; Manufacturer: Wurth Elektronik; Case/Size Code: 3012; Operating Voltage (DC): 80 V; Performance Rated Current: 1.7 A; Saturation Current @ 30%: 4.75 A; Self Resonant Frequency: 30 MHz; Category: Power Inductors; Match Code: WE-MAPI; ComponentLink1Description: Website Link; ComponentLink1URL: https://www.we-online.com/redexpert/article/74438334047?ad; ComponentLink2Description: Datasheet Link; ComponentLink2URL: https://www.we-online.com/redexpert/spec/74438334047?ad; Mount: Surface Mount; Min Operating Temperature: -40 °C; Max Operating Temperature: 125 °C; Packaging: Tape and Reel; Length: 3 mm; Width: 3 mm; Height: 1.2 mm; DC Resistance: 267.7 mΩ; Inductance: 4.7 μH
footprint WE-MAPI_3012
simulation model 3012_74438334047_4.7u
pins: 1, 2

## 74438334056
designator L?, comment 5.6 μH
WE-MAPI SMT Power Inductor, size 3012, 5.6 μH, 1.45 A, 338.3 mΩ; Manufacturer Part Number: 74438334056; Manufacturer: Wurth Elektronik; Case/Size Code: 3012; Operating Voltage (DC): 80 V; Performance Rated Current: 1.45 A; Saturation Current @ 30%: 3.7 A; Self Resonant Frequency: 28 MHz; Category: Power Inductors; Match Code: WE-MAPI; ComponentLink1Description: Website Link; ComponentLink1URL: https://www.we-online.com/redexpert/article/74438334056?ad; ComponentLink2Description: Datasheet Link; ComponentLink2URL: https://www.we-online.com/redexpert/spec/74438334056?ad; Mount: Surface Mount; Min Operating Temperature: -40 °C; Max Operating Temperature: 125 °C; Packaging: Tape and Reel; Length: 3 mm; Width: 3 mm; Height: 1.2 mm; DC Resistance: 338.3 mΩ; Inductance: 5.6 μH
footprint WE-MAPI_3012
simulation model 3012_74438334056_5.6u
pins: 1, 2

## 74438334068
designator L?, comment 6.8 μH
WE-MAPI SMT Power Inductor, size 3012, 6.8 μH, 1.4 A, 368.2 mΩ; Manufacturer Part Number: 74438334068; Manufacturer: Wurth Elektronik; Case/Size Code: 3012; Operating Voltage (DC): 80 V; Performance Rated Current: 1.4 A; Saturation Current @ 30%: 3.5 A; Self Resonant Frequency: 25 MHz; Category: Power Inductors; Match Code: WE-MAPI; ComponentLink1Description: Website Link; ComponentLink1URL: https://www.we-online.com/redexpert/article/74438334068?ad; ComponentLink2Description: Datasheet Link; ComponentLink2URL: https://www.we-online.com/redexpert/spec/74438334068?ad; Mount: Surface Mount; Min Operating Temperature: -40 °C; Max Operating Temperature: 125 °C; Packaging: Tape and Reel; Length: 3 mm; Width: 3 mm; Height: 1.2 mm; DC Resistance: 368.2 mΩ; Inductance: 6.8 μH
footprint WE-MAPI_3012
simulation model 3012_74438334068_6.8u
pins: 1, 2

## 74438335010
designator L?, comment 1 μH
WE-MAPI SMT Power Inductor, size 3015, 1 μH, 4.95 A, 39 mΩ; Manufacturer Part Number: 74438335010; Manufacturer: Wurth Elektronik; Case/Size Code: 3015; DC Resistance: 39 mΩ; Operating Voltage (DC): 80 V; Performance Rated Current: 4.95 A; Saturation Current @ 30%: 5.95 A; Self Resonant Frequency: 72 MHz; Category: Power Inductors; Match Code: WE-MAPI; ComponentLink1Description: Website Link; ComponentLink1URL: https://www.we-online.com/redexpert/article/74438335010?ad; ComponentLink2Description: Datasheet Link; ComponentLink2URL: https://www.we-online.com/redexpert/spec/74438335010?ad; Mount: Surface Mount; Min Operating Temperature: -40 °C; Max Operating Temperature: 125 °C; Packaging: Tape and Reel; Length: 3 mm; Width: 3 mm; Height: 1.5 mm; Inductance: 1 μH
footprint WE-MAPI_3015
simulation model 3015_74438335010_1u
pins: 1, 2

## 74438335010HT
designator L?, comment 1 μH
WE-MAPI SMT Power Inductor, size 3015, 1 μH, 4.5 A, 46.2 mΩ; Manufacturer Part Number: 74438335010HT; Manufacturer: Wurth Elektronik; Case/Size Code: 3015; DC Resistance: 46.2 mΩ; Operating Voltage (DC): 80 V; Performance Rated Current: 4.5 A; Saturation Current @ 30%: 5.9 A; Self Resonant Frequency: 73 MHz; Category: Power Inductors; Match Code: WE-MAPI; ComponentLink1Description: Website Link; ComponentLink1URL: https://www.we-online.com/redexpert/article/74438335010HT?ad; ComponentLink2Description: Datasheet Link; ComponentLink2URL: https://www.we-online.com/redexpert/spec/74438335010HT?ad; Mount: Surface Mount; Min Operating Temperature: -55 °C; Max Operating Temperature: 150 °C; Packaging: Tape and Reel; Length: 3 mm; Width: 1.5 mm; Height: 1.5 mm; Inductance: 1 μH
footprint WE-MAPI_3015
simulation model 3015HT_74438335010HT_1u
pins: 1, 2

## 74438335022
designator L?, comment 2.2 μH
WE-MAPI SMT Power Inductor, size 3015, 2.2 μH, 3 A, 94 mΩ; Manufacturer Part Number: 74438335022; Manufacturer: Wurth Elektronik; Case/Size Code: 3015; DC Resistance: 94 mΩ; Operating Voltage (DC): 80 V; Performance Rated Current: 3 A; Saturation Current @ 30%: 4.2 A; Self Resonant Frequency: 45 MHz; Category: Power Inductors; Match Code: WE-MAPI; ComponentLink1Description: Website Link; ComponentLink1URL: https://www.we-online.com/redexpert/article/74438335022?ad; ComponentLink2Description: Datasheet Link; ComponentLink2URL: https://www.we-online.com/redexpert/spec/74438335022?ad; Mount: Surface Mount; Min Operating Temperature: -40 °C; Max Operating Temperature: 125 °C; Packaging: Tape and Reel; Length: 3 mm; Width: 3 mm; Height: 1.5 mm; Inductance: 2.2 μH
footprint WE-MAPI_3015
simulation model 3015_74438335022_2.2u
pins: 1, 2

## 74438335022HT
designator L?, comment 2.2 μH
WE-MAPI SMT Power Inductor, size 3015, 2.2 μH, 3.2 A, 83.4 mΩ; Manufacturer Part Number: 74438335022HT; Manufacturer: Wurth Elektronik; Case/Size Code: 3015; DC Resistance: 83.4 mΩ; Operating Voltage (DC): 80 V; Performance Rated Current: 3.2 A; Saturation Current @ 30%: 5 A; Self Resonant Frequency: 42 MHz; Category: Power Inductors; Match Code: WE-MAPI; ComponentLink1Description: Website Link; ComponentLink1URL: https://www.we-online.com/redexpert/article/74438335022HT?ad; ComponentLink2Description: Datasheet Link; ComponentLink2URL: https://www.we-online.com/redexpert/spec/74438335022HT?ad; Mount: Surface Mount; Min Operating Temperature: -55 °C; Max Operating Temperature: 150 °C; Packaging: Tape and Reel; Length: 3 mm; Width: 1.5 mm; Height: 1.5 mm; Inductance: 2.2 μH
footprint WE-MAPI_3015
simulation model 3015HT_74438335022HT_2.2u
pins: 1, 2

## 74438335033
designator L?, comment 3.3 μH
WE-MAPI SMT Power Inductor, size 3015, 3.3 μH, 2.7 A, 114 mΩ; Manufacturer Part Number: 74438335033; Manufacturer: Wurth Elektronik; Case/Size Code: 3015; DC Resistance: 114 mΩ; Operating Voltage (DC): 80 V; Performance Rated Current: 2.7 A; Saturation Current @ 30%: 3.85 A; Self Resonant Frequency: 35 MHz; Category: Power Inductors; Match Code: WE-MAPI; ComponentLink1Description: Website Link; ComponentLink1URL: https://www.we-online.com/redexpert/article/74438335033?ad; ComponentLink2Description: Datasheet Link; ComponentLink2URL: https://www.we-online.com/redexpert/spec/74438335033?ad; Mount: Surface Mount; Min Operating Temperature: -40 °C; Max Operating Temperature: 125 °C; Packaging: Tape and Reel; Length: 3 mm; Width: 3 mm; Height: 1.5 mm; Inductance: 3.3 μH
footprint WE-MAPI_3015
simulation model 3015_74438335033_3.3u
pins: 1, 2

## 74438335033HT
designator L?, comment 3.3 μH
WE-MAPI SMT Power Inductor, size 3015, 3.3 μH, 2.7 A, 115.6 mΩ; Manufacturer Part Number: 74438335033HT; Manufacturer: Wurth Elektronik; Case/Size Code: 3015; Operating Voltage (DC): 80 V; Performance Rated Current: 2.7 A; Saturation Current @ 30%: 4 A; Self Resonant Frequency: 35 MHz; Category: Power Inductors; Match Code: WE-MAPI; ComponentLink1Description: Website Link; ComponentLink1URL: https://www.we-online.com/redexpert/article/74438335033HT?ad; ComponentLink2Description: Datasheet Link; ComponentLink2URL: https://www.we-online.com/redexpert/spec/74438335033HT?ad; Mount: Surface Mount; Min Operating Temperature: -55 °C; Max Operating Temperature: 150 °C; Packaging: Tape and Reel; Length: 3 mm; Width: 1.5 mm; Height: 1.5 mm; DC Resistance: 115.6 mΩ; Inductance: 3.3 μH
footprint WE-MAPI_3015
simulation model 3015HT_74438335033HT_3.3u
pins: 1, 2

## 74438335047
designator L?, comment 4.7 μH
WE-MAPI SMT Power Inductor, size 3015, 4.7 μH, 2.4 A, 141 mΩ; Manufacturer Part Number: 74438335047; Manufacturer: Wurth Elektronik; Case/Size Code: 3015; DC Resistance: 141 mΩ; Operating Voltage (DC): 80 V; Performance Rated Current: 2.4 A; Saturation Current @ 30%: 3.7 A; Self Resonant Frequency: 30 MHz; Category: Power Inductors; Match Code: WE-MAPI; ComponentLink1Description: Website Link; ComponentLink1URL: https://www.we-online.com/redexpert/article/74438335047?ad; ComponentLink2Description: Datasheet Link; ComponentLink2URL: https://www.we-online.com/redexpert/spec/74438335047?ad; Mount: Surface Mount; Min Operating Temperature: -40 °C; Max Operating Temperature: 125 °C; Packaging: Tape and Reel; Length: 3 mm; Width: 3 mm; Height: 1.5 mm; Inductance: 4.7 μH
footprint WE-MAPI_3015
simulation model 3015_74438335047_4.7u
pins: 1, 2

## 74438335047HT
designator L?, comment 4.7 μH
WE-MAPI SMT Power Inductor, size 3015, 4.7 μH, 2.2 A, 162.9 mΩ; Manufacturer Part Number: 74438335047HT; Manufacturer: Wurth Elektronik; Case/Size Code: 3015; Operating Voltage (DC): 80 V; Performance Rated Current: 2.2 A; Saturation Current @ 30%: 3.2 A; Self Resonant Frequency: 26 MHz; Category: Power Inductors; Match Code: WE-MAPI; ComponentLink1Description: Website Link; ComponentLink1URL: https://www.we-online.com/redexpert/article/74438335047HT?ad; ComponentLink2Description: Datasheet Link; ComponentLink2URL: https://www.we-online.com/redexpert/spec/74438335047HT?ad; Mount: Surface Mount; Min Operating Temperature: -55 °C; Max Operating Temperature: 150 °C; Packaging: Tape and Reel; Length: 3 mm; Width: 1.5 mm; Height: 1.5 mm; DC Resistance: 162.9 mΩ; Inductance: 4.7 μH
footprint WE-MAPI_3015
simulation model 3015HT_74438335047HT_4.7u
pins: 1, 2

## 74438335068
designator L?, comment 6.8 μH
WE-MAPI SMT Power Inductor, size 3015, 6.8 μH, 1.75 A, 250 mΩ; Manufacturer Part Number: 74438335068; Manufacturer: Wurth Elektronik; Case/Size Code: 3015; DC Resistance: 250 mΩ; Operating Voltage (DC): 80 V; Performance Rated Current: 1.75 A; Saturation Current @ 30%: 3.1 A; Self Resonant Frequency: 25 MHz; Category: Power Inductors; Match Code: WE-MAPI; ComponentLink1Description: Website Link; ComponentLink1URL: https://www.we-online.com/redexpert/article/74438335068?ad; ComponentLink2Description: Datasheet Link; ComponentLink2URL: https://www.we-online.com/redexpert/spec/74438335068?ad; Mount: Surface Mount; Min Operating Temperature: -40 °C; Max Operating Temperature: 125 °C; Packaging: Tape and Reel; Length: 3 mm; Width: 3 mm; Height: 1.5 mm; Inductance: 6.8 μH
footprint WE-MAPI_3015
simulation model 3015_74438335068_6.8u
pins: 1, 2

## 74438335068HT
designator L?, comment 6.8 μH
WE-MAPI SMT Power Inductor, size 3015, 6.8 μH, 1.7 A, 270.1 mΩ; Manufacturer Part Number: 74438335068HT; Manufacturer: Wurth Elektronik; Case/Size Code: 3015; Operating Voltage (DC): 80 V; Performance Rated Current: 1.7 A; Saturation Current @ 30%: 3 A; Self Resonant Frequency: 22 MHz; Category: Power Inductors; Match Code: WE-MAPI; ComponentLink1Description: Website Link; ComponentLink1URL: https://www.we-online.com/redexpert/article/74438335068HT?ad; ComponentLink2Description: Datasheet Link; ComponentLink2URL: https://www.we-online.com/redexpert/spec/74438335068HT?ad; Mount: Surface Mount; Min Operating Temperature: -55 °C; Max Operating Temperature: 150 °C; Packaging: Tape and Reel; Length: 3 mm; Width: 1.5 mm; Height: 1.5 mm; DC Resistance: 270.1 mΩ; Inductance: 6.8 μH
footprint WE-MAPI_3015
simulation model 3015HT_74438335068HT_6.8u
pins: 1, 2

## 74438335100
designator L?, comment 10 μH
WE-MAPI SMT Power Inductor, size 3015, 10 μH, 1.25 A, 446 mΩ; Manufacturer Part Number: 74438335100; Manufacturer: Wurth Elektronik; Case/Size Code: 3015; DC Resistance: 446 mΩ; Operating Voltage (DC): 80 V; Performance Rated Current: 1.25 A; Saturation Current @ 30%: 2.75 A; Self Resonant Frequency: 21 MHz; Category: Power Inductors; Match Code: WE-MAPI; ComponentLink1Description: Website Link; ComponentLink1URL: https://www.we-online.com/redexpert/article/74438335100?ad; ComponentLink2Description: Datasheet Link; ComponentLink2URL: https://www.we-online.com/redexpert/spec/74438335100?ad; Mount: Surface Mount; Min Operating Temperature: -40 °C; Max Operating Temperature: 125 °C; Packaging: Tape and Reel; Length: 3 mm; Width: 3 mm; Height: 1.5 mm; Inductance: 10 μH
footprint WE-MAPI_3015
simulation model 3015_74438335100_10u
pins: 1, 2

## 74438335100HT
designator L?, comment 10 μH
WE-MAPI SMT Power Inductor, size 3015, 10 μH, 1.2 A, 477.8 mΩ; Manufacturer Part Number: 74438335100HT; Manufacturer: Wurth Elektronik; Case/Size Code: 3015; Operating Voltage (DC): 80 V; Performance Rated Current: 1.2 A; Saturation Current @ 30%: 2.4 A; Self Resonant Frequency: 19 MHz; Category: Power Inductors; Match Code: WE-MAPI; ComponentLink1Description: Website Link; ComponentLink1URL: https://www.we-online.com/redexpert/article/74438335100HT?ad; ComponentLink2Description: Datasheet Link; ComponentLink2URL: https://www.we-online.com/redexpert/spec/74438335100HT?ad; Mount: Surface Mount; Min Operating Temperature: -55 °C; Max Operating Temperature: 150 °C; Packaging: Tape and Reel; Length: 3 mm; Width: 1.5 mm; Height: 1.5 mm; DC Resistance: 477.8 mΩ; Inductance: 10 μH
footprint WE-MAPI_3015
simulation model 3015HT_74438335100HT_10u
pins: 1, 2